# Altium footprint library PCBHeaders.PcbLib: 1 footprints
Each footprint in its own frame and in the unit in brackets; x right, y up, seen from the top. Pads: shape width x height; smd on the part's side, far side on the other; paste and mask are expansions set on the pad; w line width, h text height; cw(c..) or ccw(c..) is an arc to the next point about the centre after c.
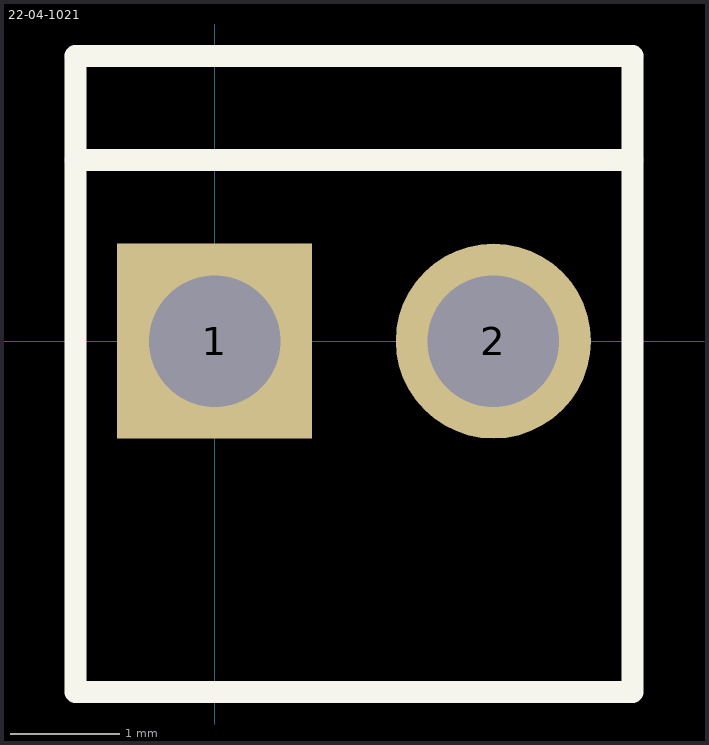
[diagram p0: the footprint, top view; thin cyan lines are the x and y axes]

## 22-04-1021 [mil] "22-04-1021 KK 5045-2"
pads (2):
  rect 70x70 hole 47.24: 1(0,0)
  round 70 hole 47.24: 2(100,0)
Top Overlay:
  lines w7.87: -50,65 150,65 ; -50,-125.98 150,-125.98 150,102.36 -50,102.36 -50,-125.98
Mechanical 1:
  lines w7.87: -50,65 150,65 ; -50,102.36 150,102.36